# EAGLE library part PCM5102A (library ENGR294)
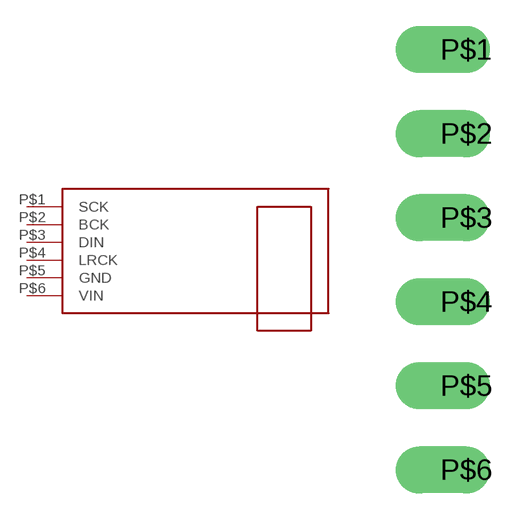
[diagram p12: symbol with the pads of 0.1X6; footprint 0.1X6]

Designator prefix -

## PCM5102A  [0.1X6]
P$1  SCK
P$2  BCK
P$3  DIN
P$4  LRCK
P$5  GND
P$6  VIN

## Footprint 0.1X6 (pad centres in mm)
drill 0.8 pad 1.422 offset: P$1 0,0; P$2 0,-2.54; P$3 0,-5.08; P$4 0,-7.62; P$5 0,-10.16; P$6 0,-12.7